# Altium schematic symbol library kmilo17pet-LT_PMIC_LT.SchLib: 2252 symbols (part 116 of 124)
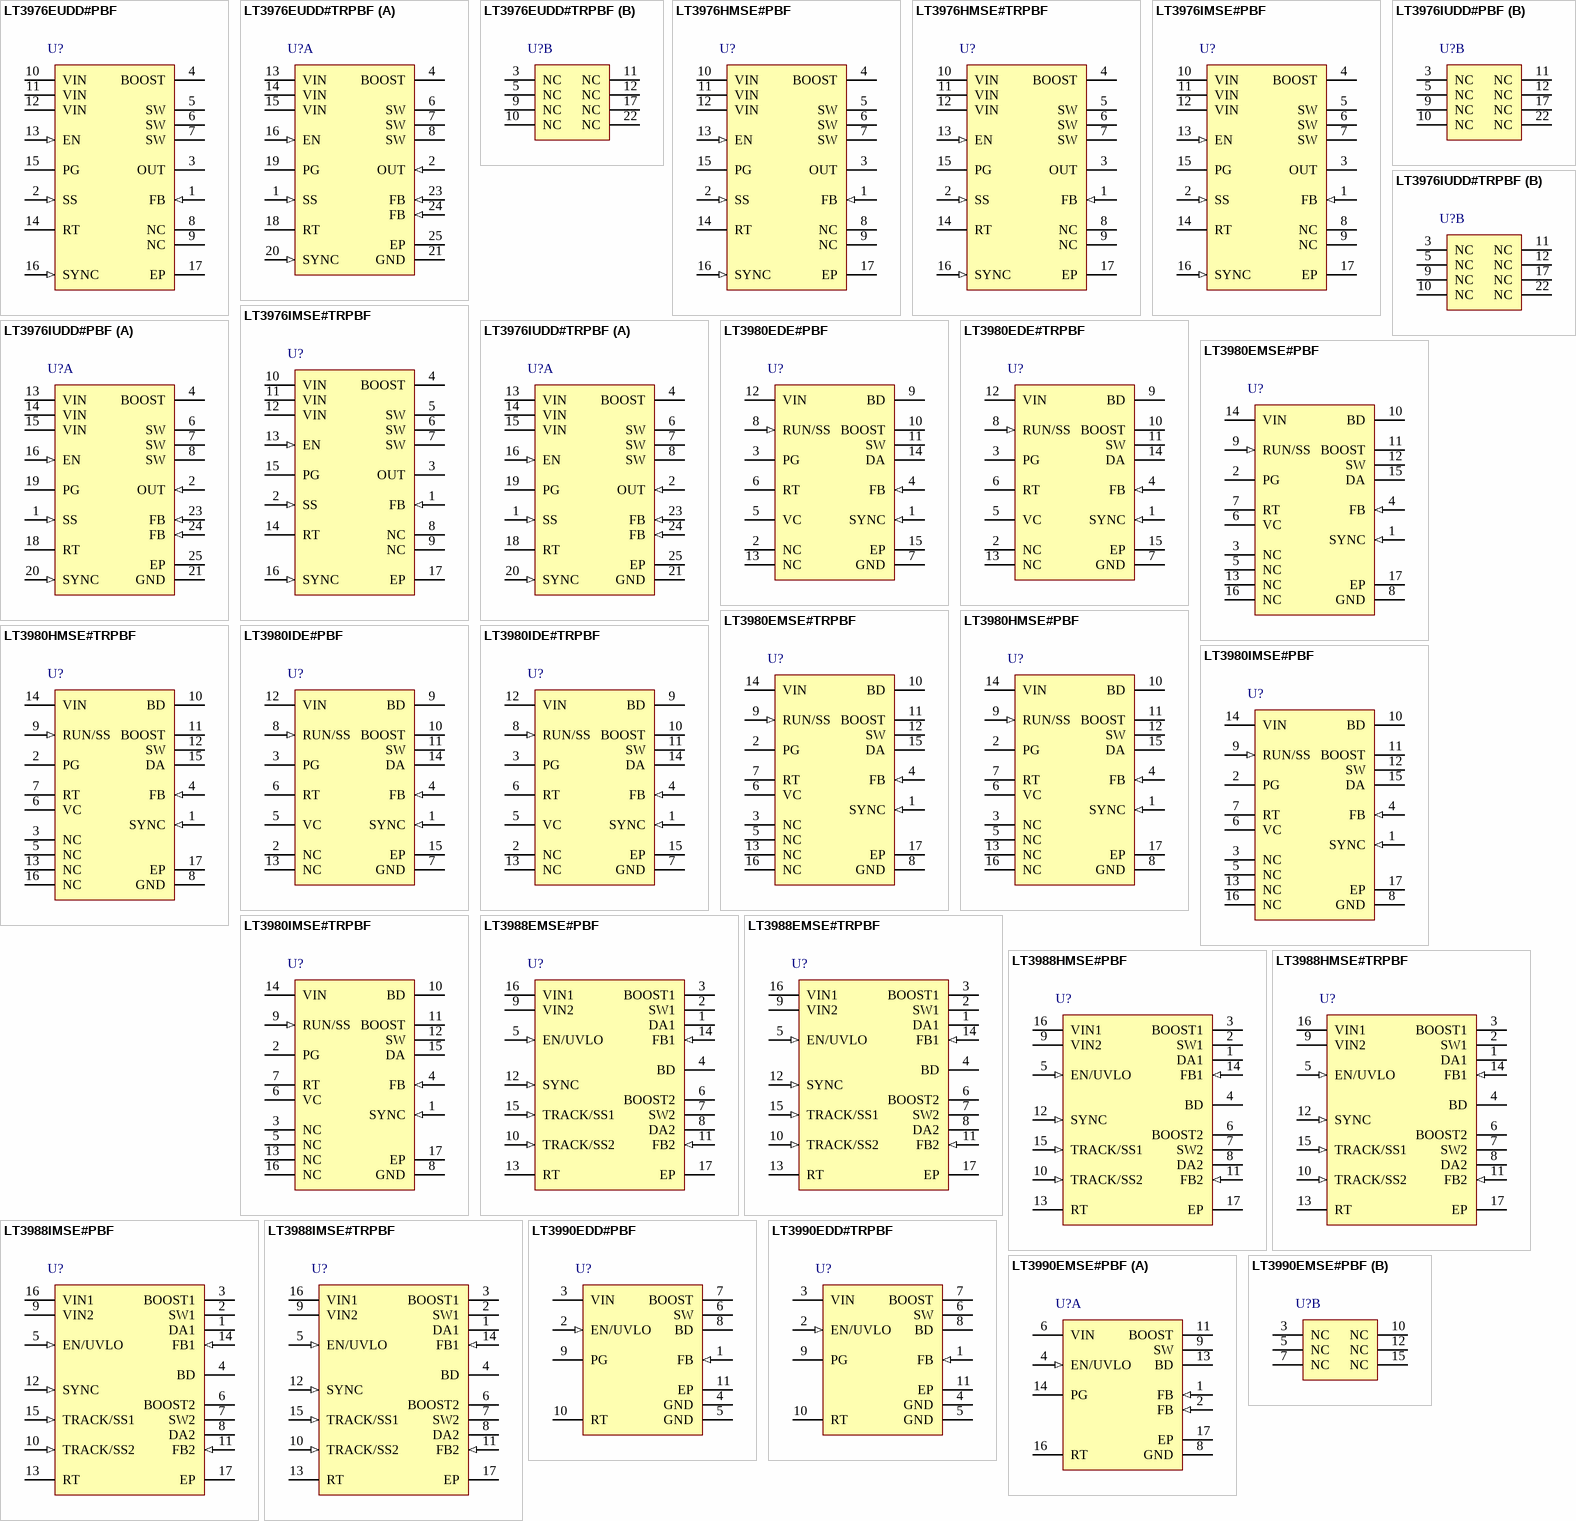
[diagram p186: symbols LT3976EUDD#PBF to LT3990EMSE#PBF]

## LT3980EDE#PBF
designator U?
2 A, 2.4 MHz Step-Down Switching Regulator with 85 uA Quiescent Current, 14-pin SON (DE-14), -40 to 125 degC, Pb-Free; Manufacturer: Linear Technology; PartNumber: LT3980EDE#PBF; Number of Outputs: 1; PackageReference: DE-14; PackageDescription: 14-Pin Plastic DFN, Body 4 x 3 mm, Pitch 0.5 mm; Supplier 1: Digi-Key; Supplier Part Number 1: LT3980EDE#PBF-ND; RoHS: TRUE
footprint LT-DE-14_V (SON, 14-Leads, Body 4x3mm, Pitch 0.5mm, Thermal Pad 3.3x1.7mm)
pins: 1 SYNC (in) "This is the external clock synchronization input. Ground this pin for low ripple Burst Mode operation at low output loads. Tie to a clock source for synchronization. Clock edges should have rise and fall times faster than (See Datasheet)", 2 NC "No Connect. These pins are not connected to internal circuitry.", 3 PG (oc) "The PG pin is the open collector output of an internal comparator. PG remains low until the FB pin is within 9% of the fi nal regulation voltage. PG output is valid when VIN is above 3.6V and RUN/SS is high", 4 FB (in) "The LT3980 regulates the FB pin to 0.790V. Connect the feedback resistor divider tap to this pin.", 5 VC "The VC pin is the output of the internal error amplifier. The voltage on this pin controls the peak switch current. Tie an RC network from this pin to ground to compensate the control loop.", 6 RT "Oscillator Resistor Input. Connecting a resistor to ground from this pin sets the switching frequency.", 7 GND (power) "Ground.", 8 RUN/SS (in) "The RUN/SS pin is used to put the LT3980 in shutdown mode. Tie to ground to shut down the LT3980. Tie to 2.5V or more for normal operation. If the shutdown feature is not used, tie this pin to the VIN pin. RUN/SS also (See Datasheet)", 9 BD (power) "This pin connects to the anode of the boost Schottky diode. BD also supplies current to the internal regulator.", 10 BOOST "This pin is used to provide a drive voltage, higher than the input voltage, to the internal bipolar NPN power switch", 11 SW (power) "The SW pin is the output of the internal power switch. Connect this pin to the inductor, catch diode and boost capacitor.", 12 VIN (power) "The VIN pin supplies current to the LT3980’s internal regulator and to the internal power switch. This pin must be locally bypassed", 13 NC "No Connect. These pins are not connected to internal circuitry.", 14 DA "This pin measures catch diode current and pauses the oscillator during overcurrent conditions", 15 EP (power) "Ground. The exposed pads must be soldered to the PCB."

## LT3980EDE#TRPBF
designator U?
2 A, 2.4 MHz Step-Down Switching Regulator with 85 uA Quiescent Current, 14-pin SON (DE-14), -40 to 125 degC, Pb-Free, Tape and Reel; Manufacturer: Linear Technology; PartNumber: LT3980EDE#TRPBF; Number of Outputs: 1; PackageReference: DE-14; PackageDescription: 14-Pin Plastic DFN, Body 4 x 3 mm, Pitch 0.5 mm; Supplier 1: Digi-Key; Supplier Part Number 1: LT3980EDE#TRPBF-ND; RoHS: TRUE
footprint LT-DE-14_V (SON, 14-Leads, Body 4x3mm, Pitch 0.5mm, Thermal Pad 3.3x1.7mm)
pins: 1 SYNC (in) "This is the external clock synchronization input. Ground this pin for low ripple Burst Mode operation at low output loads. Tie to a clock source for synchronization. Clock edges should have rise and fall times faster than (See Datasheet)", 2 NC "No Connect. These pins are not connected to internal circuitry.", 3 PG (oc) "The PG pin is the open collector output of an internal comparator. PG remains low until the FB pin is within 9% of the fi nal regulation voltage. PG output is valid when VIN is above 3.6V and RUN/SS is high", 4 FB (in) "The LT3980 regulates the FB pin to 0.790V. Connect the feedback resistor divider tap to this pin.", 5 VC "The VC pin is the output of the internal error amplifier. The voltage on this pin controls the peak switch current. Tie an RC network from this pin to ground to compensate the control loop.", 6 RT "Oscillator Resistor Input. Connecting a resistor to ground from this pin sets the switching frequency.", 7 GND (power) "Ground.", 8 RUN/SS (in) "The RUN/SS pin is used to put the LT3980 in shutdown mode. Tie to ground to shut down the LT3980. Tie to 2.5V or more for normal operation. If the shutdown feature is not used, tie this pin to the VIN pin. RUN/SS also (See Datasheet)", 9 BD (power) "This pin connects to the anode of the boost Schottky diode. BD also supplies current to the internal regulator.", 10 BOOST "This pin is used to provide a drive voltage, higher than the input voltage, to the internal bipolar NPN power switch", 11 SW (power) "The SW pin is the output of the internal power switch. Connect this pin to the inductor, catch diode and boost capacitor.", 12 VIN (power) "The VIN pin supplies current to the LT3980’s internal regulator and to the internal power switch. This pin must be locally bypassed", 13 NC "No Connect. These pins are not connected to internal circuitry.", 14 DA "This pin measures catch diode current and pauses the oscillator during overcurrent conditions", 15 EP (power) "Ground. The exposed pads must be soldered to the PCB."

## LT3980EMSE#PBF
designator U?
2 A, 2.4 MHz Step-Down Switching Regulator with 85 uA Quiescent Current, 16-pin SOP (MSE-16-EDP), -40 to 125 degC, Pb-Free; Manufacturer: Linear Technology; PartNumber: LT3980EMSE#PBF; Number of Outputs: 1; PackageReference: MSE-16; PackageDescription: 16-Pin Plastic MSOP, Exposed Die Pad, Body 4.039 x 3 mm, Pitch 0.5 mm; Supplier 1: Digi-Key; Supplier Part Number 1: LT3980EMSE#PBF-ND; RoHS: TRUE
footprint LT-MSE-16-EDP_N (SOP, 16-Leads, Body 4.1x3.1mm, Pitch 0.5mm, Thermal Pad 2.95x1.76mm, IPC Medium Density)
footprint LT-MSE-16-EDP_L (SOP, 16-Leads, Body 4.1x3.1mm, Pitch 0.5mm, Thermal Pad 2.95x1.76mm, IPC High Density)
footprint LT-MSE-16-EDP_M (SOP, 16-Leads, Body 4.1x3.1mm, Pitch 0.5mm, Thermal Pad 2.95x1.76mm, IPC Low Density)
pins: 1 SYNC (in) "This is the external clock synchronization input. Ground this pin for low ripple Burst Mode operation at low output loads. Tie to a clock source for synchronization. Clock edges should have rise and fall times faster than (See Datasheet)", 2 PG (oc) "The PG pin is the open collector output of an internal comparator. PG remains low until the FB pin is within 9% of the fi nal regulation voltage. PG output is valid when VIN is above 3.6V and RUN/SS is high.", 3 NC "No Connect. These pins are not connected to internal circuitry.", 4 FB (in) "The LT3980 regulates the FB pin to 0.790V. Connect the feedback resistor divider tap to this pin.", 5 NC "No Connect. These pins are not connected to internal circuitry.", 6 VC "The VC pin is the output of the internal error amplifier. The voltage on this pin controls the peak switch current. Tie an RC network from this pin to ground to compensate the control loop.", 7 RT "Oscillator Resistor Input. Connecting a resistor to ground from this pin sets the switching frequency.", 8 GND (power) "Ground. The exposed pads must be soldered to the PCB.", 9 RUN/SS (in) "The RUN/SS pin is used to put the LT3980 in shutdown mode. Tie to ground to shut down the LT3980. Tie to 2.5V or more for normal operation. If the shutdown feature is not used, tie this pin to the VIN pin. RUN/SS also (See Datasheet)", 10 BD (power) "This pin connects to the anode of the boost Schottky diode. BD also supplies current to the internal regulator.", 11 BOOST "This pin is used to provide a drive voltage, higher than the input voltage, to the internal bipolar NPN power switch.", 12 SW (power) "The SW pin is the output of the internal power switch. Connect this pin to the inductor, catch diode and boost capacitor.", 13 NC "No Connect. These pins are not connected to internal circuitry.", 14 VIN (power) "The VIN pin supplies current to the LT3980’s internal regulator and to the internal power switch. This pin must be locally bypassed.", 15 DA "This pin measures catch diode current and pauses the oscillator during overcurrent conditions.", 16 NC "No Connect. These pins are not connected to internal circuitry.", 17 EP (power) "Ground. The exposed pads must be soldered to the PCB."

## LT3980EMSE#TRPBF
designator U?
2 A, 2.4 MHz Step-Down Switching Regulator with 85 uA Quiescent Current, 16-pin SOP (MSE-16-EDP), -40 to 125 degC, Pb-Free, Tape and Reel; Manufacturer: Linear Technology; PartNumber: LT3980EMSE#TRPBF; Number of Outputs: 1; PackageReference: MSE-16; PackageDescription: 16-Pin Plastic MSOP, Exposed Die Pad, Body 4.039 x 3 mm, Pitch 0.5 mm; Supplier 1: Digi-Key; Supplier Part Number 1: LT3980EMSE#TRPBF-ND; RoHS: TRUE
footprint LT-MSE-16-EDP_N (SOP, 16-Leads, Body 4.1x3.1mm, Pitch 0.5mm, Thermal Pad 2.95x1.76mm, IPC Medium Density)
footprint LT-MSE-16-EDP_L (SOP, 16-Leads, Body 4.1x3.1mm, Pitch 0.5mm, Thermal Pad 2.95x1.76mm, IPC High Density)
footprint LT-MSE-16-EDP_M (SOP, 16-Leads, Body 4.1x3.1mm, Pitch 0.5mm, Thermal Pad 2.95x1.76mm, IPC Low Density)
pins: 1 SYNC (in) "This is the external clock synchronization input. Ground this pin for low ripple Burst Mode operation at low output loads. Tie to a clock source for synchronization. Clock edges should have rise and fall times faster than (See Datasheet)", 2 PG (oc) "The PG pin is the open collector output of an internal comparator. PG remains low until the FB pin is within 9% of the fi nal regulation voltage. PG output is valid when VIN is above 3.6V and RUN/SS is high.", 3 NC "No Connect. These pins are not connected to internal circuitry.", 4 FB (in) "The LT3980 regulates the FB pin to 0.790V. Connect the feedback resistor divider tap to this pin.", 5 NC "No Connect. These pins are not connected to internal circuitry.", 6 VC "The VC pin is the output of the internal error amplifier. The voltage on this pin controls the peak switch current. Tie an RC network from this pin to ground to compensate the control loop.", 7 RT "Oscillator Resistor Input. Connecting a resistor to ground from this pin sets the switching frequency.", 8 GND (power) "Ground. The exposed pads must be soldered to the PCB.", 9 RUN/SS (in) "The RUN/SS pin is used to put the LT3980 in shutdown mode. Tie to ground to shut down the LT3980. Tie to 2.5V or more for normal operation. If the shutdown feature is not used, tie this pin to the VIN pin. RUN/SS also (See Datasheet)", 10 BD (power) "This pin connects to the anode of the boost Schottky diode. BD also supplies current to the internal regulator.", 11 BOOST "This pin is used to provide a drive voltage, higher than the input voltage, to the internal bipolar NPN power switch.", 12 SW (power) "The SW pin is the output of the internal power switch. Connect this pin to the inductor, catch diode and boost capacitor.", 13 NC "No Connect. These pins are not connected to internal circuitry.", 14 VIN (power) "The VIN pin supplies current to the LT3980’s internal regulator and to the internal power switch. This pin must be locally bypassed.", 15 DA "This pin measures catch diode current and pauses the oscillator during overcurrent conditions.", 16 NC "No Connect. These pins are not connected to internal circuitry.", 17 EP (power) "Ground. The exposed pads must be soldered to the PCB."

## LT3980HMSE#PBF
designator U?
2 A, 2.4 MHz Step-Down Switching Regulator with 85 uA Quiescent Current, 16-pin SOP (MSE-16-EDP), -40 to 150 degC, Pb-Free; Manufacturer: Linear Technology; PartNumber: LT3980HMSE#PBF; Number of Outputs: 1; PackageReference: MSE-16; PackageDescription: 16-Pin Plastic MSOP, Exposed Die Pad, Body 4.039 x 3 mm, Pitch 0.5 mm; Supplier 1: Digi-Key; Supplier Part Number 1: LT3980HMSE#PBF-ND; RoHS: TRUE
footprint LT-MSE-16-EDP_N (SOP, 16-Leads, Body 4.1x3.1mm, Pitch 0.5mm, Thermal Pad 2.95x1.76mm, IPC Medium Density)
footprint LT-MSE-16-EDP_L (SOP, 16-Leads, Body 4.1x3.1mm, Pitch 0.5mm, Thermal Pad 2.95x1.76mm, IPC High Density)
footprint LT-MSE-16-EDP_M (SOP, 16-Leads, Body 4.1x3.1mm, Pitch 0.5mm, Thermal Pad 2.95x1.76mm, IPC Low Density)
pins: 1 SYNC (in) "This is the external clock synchronization input. Ground this pin for low ripple Burst Mode operation at low output loads. Tie to a clock source for synchronization. Clock edges should have rise and fall times faster than (See Datasheet)", 2 PG (oc) "The PG pin is the open collector output of an internal comparator. PG remains low until the FB pin is within 9% of the fi nal regulation voltage. PG output is valid when VIN is above 3.6V and RUN/SS is high.", 3 NC "No Connect. These pins are not connected to internal circuitry.", 4 FB (in) "The LT3980 regulates the FB pin to 0.790V. Connect the feedback resistor divider tap to this pin.", 5 NC "No Connect. These pins are not connected to internal circuitry.", 6 VC "The VC pin is the output of the internal error amplifier. The voltage on this pin controls the peak switch current. Tie an RC network from this pin to ground to compensate the control loop.", 7 RT "Oscillator Resistor Input. Connecting a resistor to ground from this pin sets the switching frequency.", 8 GND (power) "Ground. The exposed pads must be soldered to the PCB.", 9 RUN/SS (in) "The RUN/SS pin is used to put the LT3980 in shutdown mode. Tie to ground to shut down the LT3980. Tie to 2.5V or more for normal operation. If the shutdown feature is not used, tie this pin to the VIN pin. RUN/SS also (See Datasheet)", 10 BD (power) "This pin connects to the anode of the boost Schottky diode. BD also supplies current to the internal regulator.", 11 BOOST "This pin is used to provide a drive voltage, higher than the input voltage, to the internal bipolar NPN power switch.", 12 SW (power) "The SW pin is the output of the internal power switch. Connect this pin to the inductor, catch diode and boost capacitor.", 13 NC "No Connect. These pins are not connected to internal circuitry.", 14 VIN (power) "The VIN pin supplies current to the LT3980’s internal regulator and to the internal power switch. This pin must be locally bypassed.", 15 DA "This pin measures catch diode current and pauses the oscillator during overcurrent conditions.", 16 NC "No Connect. These pins are not connected to internal circuitry.", 17 EP (power) "Ground. The exposed pads must be soldered to the PCB."

## LT3980HMSE#TRPBF
designator U?
2 A, 2.4 MHz Step-Down Switching Regulator with 85 uA Quiescent Current, 16-pin SOP (MSE-16-EDP), -40 to 150 degC, Pb-Free, Tape and Reel; Manufacturer: Linear Technology; PartNumber: LT3980HMSE#TRPBF; Number of Outputs: 1; PackageReference: MSE-16; PackageDescription: 16-Pin Plastic MSOP, Exposed Die Pad, Body 4.039 x 3 mm, Pitch 0.5 mm; Supplier 1: Digi-Key; Supplier Part Number 1: LT3980HMSE#TRPBF-ND; RoHS: TRUE
footprint LT-MSE-16-EDP_N (SOP, 16-Leads, Body 4.1x3.1mm, Pitch 0.5mm, Thermal Pad 2.95x1.76mm, IPC Medium Density)
footprint LT-MSE-16-EDP_L (SOP, 16-Leads, Body 4.1x3.1mm, Pitch 0.5mm, Thermal Pad 2.95x1.76mm, IPC High Density)
footprint LT-MSE-16-EDP_M (SOP, 16-Leads, Body 4.1x3.1mm, Pitch 0.5mm, Thermal Pad 2.95x1.76mm, IPC Low Density)
pins: 1 SYNC (in) "This is the external clock synchronization input. Ground this pin for low ripple Burst Mode operation at low output loads. Tie to a clock source for synchronization. Clock edges should have rise and fall times faster than (See Datasheet)", 2 PG (oc) "The PG pin is the open collector output of an internal comparator. PG remains low until the FB pin is within 9% of the fi nal regulation voltage. PG output is valid when VIN is above 3.6V and RUN/SS is high.", 3 NC "No Connect. These pins are not connected to internal circuitry.", 4 FB (in) "The LT3980 regulates the FB pin to 0.790V. Connect the feedback resistor divider tap to this pin.", 5 NC "No Connect. These pins are not connected to internal circuitry.", 6 VC "The VC pin is the output of the internal error amplifier. The voltage on this pin controls the peak switch current. Tie an RC network from this pin to ground to compensate the control loop.", 7 RT "Oscillator Resistor Input. Connecting a resistor to ground from this pin sets the switching frequency.", 8 GND (power) "Ground. The exposed pads must be soldered to the PCB.", 9 RUN/SS (in) "The RUN/SS pin is used to put the LT3980 in shutdown mode. Tie to ground to shut down the LT3980. Tie to 2.5V or more for normal operation. If the shutdown feature is not used, tie this pin to the VIN pin. RUN/SS also (See Datasheet)", 10 BD (power) "This pin connects to the anode of the boost Schottky diode. BD also supplies current to the internal regulator.", 11 BOOST "This pin is used to provide a drive voltage, higher than the input voltage, to the internal bipolar NPN power switch.", 12 SW (power) "The SW pin is the output of the internal power switch. Connect this pin to the inductor, catch diode and boost capacitor.", 13 NC "No Connect. These pins are not connected to internal circuitry.", 14 VIN (power) "The VIN pin supplies current to the LT3980’s internal regulator and to the internal power switch. This pin must be locally bypassed.", 15 DA "This pin measures catch diode current and pauses the oscillator during overcurrent conditions.", 16 NC "No Connect. These pins are not connected to internal circuitry.", 17 EP (power) "Ground. The exposed pads must be soldered to the PCB."

## LT3980IDE#PBF
designator U?
2 A, 2.4 MHz Step-Down Switching Regulator with 85 uA Quiescent Current, 14-pin SON (DE-14), -40 to 125 degC, Pb-Free; Manufacturer: Linear Technology; PartNumber: LT3980IDE#PBF; Number of Outputs: 1; PackageReference: DE-14; PackageDescription: 14-Pin Plastic DFN, Body 4 x 3 mm, Pitch 0.5 mm; Supplier 1: Digi-Key; Supplier Part Number 1: LT3980IDE#PBF-ND; RoHS: TRUE
footprint LT-DE-14_V (SON, 14-Leads, Body 4x3mm, Pitch 0.5mm, Thermal Pad 3.3x1.7mm)
pins: 1 SYNC (in) "This is the external clock synchronization input. Ground this pin for low ripple Burst Mode operation at low output loads. Tie to a clock source for synchronization. Clock edges should have rise and fall times faster than (See Datasheet)", 2 NC "No Connect. These pins are not connected to internal circuitry.", 3 PG (oc) "The PG pin is the open collector output of an internal comparator. PG remains low until the FB pin is within 9% of the fi nal regulation voltage. PG output is valid when VIN is above 3.6V and RUN/SS is high", 4 FB (in) "The LT3980 regulates the FB pin to 0.790V. Connect the feedback resistor divider tap to this pin.", 5 VC "The VC pin is the output of the internal error amplifier. The voltage on this pin controls the peak switch current. Tie an RC network from this pin to ground to compensate the control loop.", 6 RT "Oscillator Resistor Input. Connecting a resistor to ground from this pin sets the switching frequency.", 7 GND (power) "Ground.", 8 RUN/SS (in) "The RUN/SS pin is used to put the LT3980 in shutdown mode. Tie to ground to shut down the LT3980. Tie to 2.5V or more for normal operation. If the shutdown feature is not used, tie this pin to the VIN pin. RUN/SS also (See Datasheet)", 9 BD (power) "This pin connects to the anode of the boost Schottky diode. BD also supplies current to the internal regulator.", 10 BOOST "This pin is used to provide a drive voltage, higher than the input voltage, to the internal bipolar NPN power switch", 11 SW (power) "The SW pin is the output of the internal power switch. Connect this pin to the inductor, catch diode and boost capacitor.", 12 VIN (power) "The VIN pin supplies current to the LT3980’s internal regulator and to the internal power switch. This pin must be locally bypassed", 13 NC "No Connect. These pins are not connected to internal circuitry.", 14 DA "This pin measures catch diode current and pauses the oscillator during overcurrent conditions", 15 EP (power) "Ground. The exposed pads must be soldered to the PCB."

## LT3980IDE#TRPBF
designator U?
2 A, 2.4 MHz Step-Down Switching Regulator with 85 uA Quiescent Current, 14-pin SON (DE-14), -40 to 125 degC, Pb-Free, Tape and Reel; Manufacturer: Linear Technology; PartNumber: LT3980IDE#TRPBF; Number of Outputs: 1; PackageReference: DE-14; PackageDescription: 14-Pin Plastic DFN, Body 4 x 3 mm, Pitch 0.5 mm; Supplier 1: Digi-Key; Supplier Part Number 1: LT3980IDE#TRPBF-ND; RoHS: TRUE
footprint LT-DE-14_V (SON, 14-Leads, Body 4x3mm, Pitch 0.5mm, Thermal Pad 3.3x1.7mm)
pins: 1 SYNC (in) "This is the external clock synchronization input. Ground this pin for low ripple Burst Mode operation at low output loads. Tie to a clock source for synchronization. Clock edges should have rise and fall times faster than (See Datasheet)", 2 NC "No Connect. These pins are not connected to internal circuitry.", 3 PG (oc) "The PG pin is the open collector output of an internal comparator. PG remains low until the FB pin is within 9% of the fi nal regulation voltage. PG output is valid when VIN is above 3.6V and RUN/SS is high", 4 FB (in) "The LT3980 regulates the FB pin to 0.790V. Connect the feedback resistor divider tap to this pin.", 5 VC "The VC pin is the output of the internal error amplifier. The voltage on this pin controls the peak switch current. Tie an RC network from this pin to ground to compensate the control loop.", 6 RT "Oscillator Resistor Input. Connecting a resistor to ground from this pin sets the switching frequency.", 7 GND (power) "Ground.", 8 RUN/SS (in) "The RUN/SS pin is used to put the LT3980 in shutdown mode. Tie to ground to shut down the LT3980. Tie to 2.5V or more for normal operation. If the shutdown feature is not used, tie this pin to the VIN pin. RUN/SS also (See Datasheet)", 9 BD (power) "This pin connects to the anode of the boost Schottky diode. BD also supplies current to the internal regulator.", 10 BOOST "This pin is used to provide a drive voltage, higher than the input voltage, to the internal bipolar NPN power switch", 11 SW (power) "The SW pin is the output of the internal power switch. Connect this pin to the inductor, catch diode and boost capacitor.", 12 VIN (power) "The VIN pin supplies current to the LT3980’s internal regulator and to the internal power switch. This pin must be locally bypassed", 13 NC "No Connect. These pins are not connected to internal circuitry.", 14 DA "This pin measures catch diode current and pauses the oscillator during overcurrent conditions", 15 EP (power) "Ground. The exposed pads must be soldered to the PCB."

## LT3980IMSE#PBF
designator U?
2 A, 2.4 MHz Step-Down Switching Regulator with 85 uA Quiescent Current, 16-pin SOP (MSE-16-EDP), -40 to 125 degC, Pb-Free; Manufacturer: Linear Technology; PartNumber: LT3980IMSE#PBF; Number of Outputs: 1; PackageReference: MSE-16; PackageDescription: 16-Pin Plastic MSOP, Exposed Die Pad, Body 4.039 x 3 mm, Pitch 0.5 mm; Supplier 1: Digi-Key; Supplier Part Number 1: LT3980IMSE#PBF-ND; RoHS: TRUE
footprint LT-MSE-16-EDP_N (SOP, 16-Leads, Body 4.1x3.1mm, Pitch 0.5mm, Thermal Pad 2.95x1.76mm, IPC Medium Density)
footprint LT-MSE-16-EDP_L (SOP, 16-Leads, Body 4.1x3.1mm, Pitch 0.5mm, Thermal Pad 2.95x1.76mm, IPC High Density)
footprint LT-MSE-16-EDP_M (SOP, 16-Leads, Body 4.1x3.1mm, Pitch 0.5mm, Thermal Pad 2.95x1.76mm, IPC Low Density)
pins: 1 SYNC (in) "This is the external clock synchronization input. Ground this pin for low ripple Burst Mode operation at low output loads. Tie to a clock source for synchronization. Clock edges should have rise and fall times faster than (See Datasheet)", 2 PG (oc) "The PG pin is the open collector output of an internal comparator. PG remains low until the FB pin is within 9% of the fi nal regulation voltage. PG output is valid when VIN is above 3.6V and RUN/SS is high.", 3 NC "No Connect. These pins are not connected to internal circuitry.", 4 FB (in) "The LT3980 regulates the FB pin to 0.790V. Connect the feedback resistor divider tap to this pin.", 5 NC "No Connect. These pins are not connected to internal circuitry.", 6 VC "The VC pin is the output of the internal error amplifier. The voltage on this pin controls the peak switch current. Tie an RC network from this pin to ground to compensate the control loop.", 7 RT "Oscillator Resistor Input. Connecting a resistor to ground from this pin sets the switching frequency.", 8 GND (power) "Ground. The exposed pads must be soldered to the PCB.", 9 RUN/SS (in) "The RUN/SS pin is used to put the LT3980 in shutdown mode. Tie to ground to shut down the LT3980. Tie to 2.5V or more for normal operation. If the shutdown feature is not used, tie this pin to the VIN pin. RUN/SS also (See Datasheet)", 10 BD (power) "This pin connects to the anode of the boost Schottky diode. BD also supplies current to the internal regulator.", 11 BOOST "This pin is used to provide a drive voltage, higher than the input voltage, to the internal bipolar NPN power switch.", 12 SW (power) "The SW pin is the output of the internal power switch. Connect this pin to the inductor, catch diode and boost capacitor.", 13 NC "No Connect. These pins are not connected to internal circuitry.", 14 VIN (power) "The VIN pin supplies current to the LT3980’s internal regulator and to the internal power switch. This pin must be locally bypassed.", 15 DA "This pin measures catch diode current and pauses the oscillator during overcurrent conditions.", 16 NC "No Connect. These pins are not connected to internal circuitry.", 17 EP (power) "Ground. The exposed pads must be soldered to the PCB."

## LT3980IMSE#TRPBF
designator U?
2 A, 2.4 MHz Step-Down Switching Regulator with 85 uA Quiescent Current, 16-pin SOP (MSE-16-EDP), -40 to 125 degC, Pb-Free, Tape and Reel; Manufacturer: Linear Technology; PartNumber: LT3980IMSE#TRPBF; Number of Outputs: 1; PackageReference: MSE-16; PackageDescription: 16-Pin Plastic MSOP, Exposed Die Pad, Body 4.039 x 3 mm, Pitch 0.5 mm; Supplier 1: Digi-Key; Supplier Part Number 1: LT3980IMSE#TRPBF-ND; RoHS: TRUE
footprint LT-MSE-16-EDP_N (SOP, 16-Leads, Body 4.1x3.1mm, Pitch 0.5mm, Thermal Pad 2.95x1.76mm, IPC Medium Density)
footprint LT-MSE-16-EDP_L (SOP, 16-Leads, Body 4.1x3.1mm, Pitch 0.5mm, Thermal Pad 2.95x1.76mm, IPC High Density)
footprint LT-MSE-16-EDP_M (SOP, 16-Leads, Body 4.1x3.1mm, Pitch 0.5mm, Thermal Pad 2.95x1.76mm, IPC Low Density)
pins: 1 SYNC (in) "This is the external clock synchronization input. Ground this pin for low ripple Burst Mode operation at low output loads. Tie to a clock source for synchronization. Clock edges should have rise and fall times faster than (See Datasheet)", 2 PG (oc) "The PG pin is the open collector output of an internal comparator. PG remains low until the FB pin is within 9% of the fi nal regulation voltage. PG output is valid when VIN is above 3.6V and RUN/SS is high.", 3 NC "No Connect. These pins are not connected to internal circuitry.", 4 FB (in) "The LT3980 regulates the FB pin to 0.790V. Connect the feedback resistor divider tap to this pin.", 5 NC "No Connect. These pins are not connected to internal circuitry.", 6 VC "The VC pin is the output of the internal error amplifier. The voltage on this pin controls the peak switch current. Tie an RC network from this pin to ground to compensate the control loop.", 7 RT "Oscillator Resistor Input. Connecting a resistor to ground from this pin sets the switching frequency.", 8 GND (power) "Ground. The exposed pads must be soldered to the PCB.", 9 RUN/SS (in) "The RUN/SS pin is used to put the LT3980 in shutdown mode. Tie to ground to shut down the LT3980. Tie to 2.5V or more for normal operation. If the shutdown feature is not used, tie this pin to the VIN pin. RUN/SS also (See Datasheet)", 10 BD (power) "This pin connects to the anode of the boost Schottky diode. BD also supplies current to the internal regulator.", 11 BOOST "This pin is used to provide a drive voltage, higher than the input voltage, to the internal bipolar NPN power switch.", 12 SW (power) "The SW pin is the output of the internal power switch. Connect this pin to the inductor, catch diode and boost capacitor.", 13 NC "No Connect. These pins are not connected to internal circuitry.", 14 VIN (power) "The VIN pin supplies current to the LT3980’s internal regulator and to the internal power switch. This pin must be locally bypassed.", 15 DA "This pin measures catch diode current and pauses the oscillator during overcurrent conditions.", 16 NC "No Connect. These pins are not connected to internal circuitry.", 17 EP (power) "Ground. The exposed pads must be soldered to the PCB."

## LT3988EMSE#PBF
designator U?
Dual 60 V Monolithic 1 A Step-Down Switching Regulator, 16-pin SOP (MSE-16-EDP), -40 to 125 degC, Pb-Free; Manufacturer: Linear Technology; PartNumber: LT3988EMSE#PBF; Number of Outputs: 2; PackageReference: MSE-16; PackageDescription: 16-Pin Plastic MSOP, Exposed Die Pad, Body 4.039 x 3 mm, Pitch 0.5 mm; Supplier 1: Digi-Key; Supplier Part Number 1: LT3988EMSE#PBF-ND; RoHS: TRUE
footprint LT-MSE-16-EDP_N (SOP, 16-Leads, Body 4.1x3.1mm, Pitch 0.5mm, Thermal Pad 2.95x1.76mm, IPC Medium Density)
footprint LT-MSE-16-EDP_L (SOP, 16-Leads, Body 4.1x3.1mm, Pitch 0.5mm, Thermal Pad 2.95x1.76mm, IPC High Density)
footprint LT-MSE-16-EDP_M (SOP, 16-Leads, Body 4.1x3.1mm, Pitch 0.5mm, Thermal Pad 2.95x1.76mm, IPC Low Density)
pins: 1 DA1 "Tie the DA pin to the anode of the external Schottky catch diode. If the DA pin current exceeds 1.32A, which could occur in an overload or short-circuit condition, switching is disabled until the DA pin current falls below 1.(See Datasheet)", 2 SW1 (power) "The SW pins are the outputs of the internal power switches. Connect these pins to the inductors, catch diodes and boost capacitors.", 3 BOOST1 "The BOOST pins are used to provide drive voltages, higher than the input voltage, to the internal NPN power switches.", 4 BD (power) "Internal boost diodes are connected between the BD pin and the BOOST pins. Connect BD to a 3V or higher supply, such as VOUT.", 5 EN/UVLO (in) "This pin is used to shut down the LT3988. It can be driven from a logic level, tied directly to the input, or used as an undervoltage lockout by connecting a resistor divider from VIN1.", 6 BOOST2 "The BOOST pins are used to provide drive voltages, higher than the input voltage, to the internal NPN power switches.", 7 SW2 (power) "The SW pins are the outputs of the internal power switches. Connect these pins to the inductors, catch diodes and boost capacitors.", 8 DA2 "Tie the DA pin to the anode of the external Schottky catch diode. If the DA pin current exceeds 1.32A, which could occur in an overload or short-circuit condition, switching is disabled until the DA pin current falls below 1.(See Datasheet)", 9 VIN2 (power) "The VIN2 pin supplies current to the internal power switch connected to SW2 and must be locally bypassed. Connect this pin directly to VIN1 unless power for channel 2 is coming from a different source. VIN2 must be greater (See Datasheet)", 10 TRACK/SS2 (in) "The TRACK/SS pins are used to soft-start the two channels, to allow one channel to track the other output, or to allow both channels to track another output. For tracking, tie a resistor divider to this pin from the tracked (See Datasheet)", 11 FB2 (in) "The LT3988 regulates each feedback pin to 0.750V. Connect the feedback resistor divider taps to these pins.", 12 SYNC (in) "To synchronize the part to an external frequency, drive the SYNC pin with a logic-level signal with positive and negative pulse widths of at least 100ns. If the SYNC function is not used, connect the SYNC pin to ground. If (See Datasheet)", 13 RT "The RT pin is used to set the internal oscillator frequency. Tie a resistor from RT to GND for the desired switching frequency.", 14 FB1 (in) "The LT3988 regulates each feedback pin to 0.750V. Connect the feedback resistor divider taps to these pins.", 15 TRACK/SS1 (in) "The TRACK/SS pins are used to soft-start the two channels, to allow one channel to track the other output, or to allow both channels to track another output. For tracking, tie a resistor divider to this pin from the tracked (See Datasheet)", 16 VIN1 (power) "The VIN1 pin supplies current to the LT3988 internal circuitry and to the internal power switch connected to SW1 and must be locally bypassed. VIN1 must be greater than 3.9V (typ) for channel 1 or channel 2 to operate.", 17 EP (power) "The exposed pad metal of the package provides both electrical contact to ground and good thermal contact to the printed circuit board. The exposed pad must be soldered to the circuit board for proper operation."

## LT3988EMSE#TRPBF
designator U?
Dual 60 V Monolithic 1 A Step-Down Switching Regulator, 16-pin SOP (MSE-16-EDP), -40 to 125 degC, Pb-Free, Tape and Reel; Manufacturer: Linear Technology; PartNumber: LT3988EMSE#TRPBF; Number of Outputs: 2; PackageReference: MSE-16; PackageDescription: 16-Pin Plastic MSOP, Exposed Die Pad, Body 4.039 x 3 mm, Pitch 0.5 mm; Supplier 1: Digi-Key; Supplier Part Number 1: LT3988EMSE#TRPBF-ND; RoHS: TRUE
footprint LT-MSE-16-EDP_N (SOP, 16-Leads, Body 4.1x3.1mm, Pitch 0.5mm, Thermal Pad 2.95x1.76mm, IPC Medium Density)
footprint LT-MSE-16-EDP_L (SOP, 16-Leads, Body 4.1x3.1mm, Pitch 0.5mm, Thermal Pad 2.95x1.76mm, IPC High Density)
footprint LT-MSE-16-EDP_M (SOP, 16-Leads, Body 4.1x3.1mm, Pitch 0.5mm, Thermal Pad 2.95x1.76mm, IPC Low Density)
pins: 1 DA1 "Tie the DA pin to the anode of the external Schottky catch diode. If the DA pin current exceeds 1.32A, which could occur in an overload or short-circuit condition, switching is disabled until the DA pin current falls below 1.(See Datasheet)", 2 SW1 (power) "The SW pins are the outputs of the internal power switches. Connect these pins to the inductors, catch diodes and boost capacitors.", 3 BOOST1 "The BOOST pins are used to provide drive voltages, higher than the input voltage, to the internal NPN power switches.", 4 BD (power) "Internal boost diodes are connected between the BD pin and the BOOST pins. Connect BD to a 3V or higher supply, such as VOUT.", 5 EN/UVLO (in) "This pin is used to shut down the LT3988. It can be driven from a logic level, tied directly to the input, or used as an undervoltage lockout by connecting a resistor divider from VIN1.", 6 BOOST2 "The BOOST pins are used to provide drive voltages, higher than the input voltage, to the internal NPN power switches.", 7 SW2 (power) "The SW pins are the outputs of the internal power switches. Connect these pins to the inductors, catch diodes and boost capacitors.", 8 DA2 "Tie the DA pin to the anode of the external Schottky catch diode. If the DA pin current exceeds 1.32A, which could occur in an overload or short-circuit condition, switching is disabled until the DA pin current falls below 1.(See Datasheet)", 9 VIN2 (power) "The VIN2 pin supplies current to the internal power switch connected to SW2 and must be locally bypassed. Connect this pin directly to VIN1 unless power for channel 2 is coming from a different source. VIN2 must be greater (See Datasheet)", 10 TRACK/SS2 (in) "The TRACK/SS pins are used to soft-start the two channels, to allow one channel to track the other output, or to allow both channels to track another output. For tracking, tie a resistor divider to this pin from the tracked (See Datasheet)", 11 FB2 (in) "The LT3988 regulates each feedback pin to 0.750V. Connect the feedback resistor divider taps to these pins.", 12 SYNC (in) "To synchronize the part to an external frequency, drive the SYNC pin with a logic-level signal with positive and negative pulse widths of at least 100ns. If the SYNC function is not used, connect the SYNC pin to ground. If (See Datasheet)", 13 RT "The RT pin is used to set the internal oscillator frequency. Tie a resistor from RT to GND for the desired switching frequency.", 14 FB1 (in) "The LT3988 regulates each feedback pin to 0.750V. Connect the feedback resistor divider taps to these pins.", 15 TRACK/SS1 (in) "The TRACK/SS pins are used to soft-start the two channels, to allow one channel to track the other output, or to allow both channels to track another output. For tracking, tie a resistor divider to this pin from the tracked (See Datasheet)", 16 VIN1 (power) "The VIN1 pin supplies current to the LT3988 internal circuitry and to the internal power switch connected to SW1 and must be locally bypassed. VIN1 must be greater than 3.9V (typ) for channel 1 or channel 2 to operate.", 17 EP (power) "The exposed pad metal of the package provides both electrical contact to ground and good thermal contact to the printed circuit board. The exposed pad must be soldered to the circuit board for proper operation."

## LT3988HMSE#PBF
designator U?
Dual 60 V Monolithic 1 A Step-Down Switching Regulator, 16-pin SOP (MSE-16-EDP), -40 to 150 degC, Pb-Free; Manufacturer: Linear Technology; PartNumber: LT3988HMSE#PBF; Number of Outputs: 2; PackageReference: MSE-16; PackageDescription: 16-Pin Plastic MSOP, Exposed Die Pad, Body 4.039 x 3 mm, Pitch 0.5 mm; Supplier 1: Digi-Key; Supplier Part Number 1: LT3988HMSE#PBF-ND; RoHS: TRUE
footprint LT-MSE-16-EDP_N (SOP, 16-Leads, Body 4.1x3.1mm, Pitch 0.5mm, Thermal Pad 2.95x1.76mm, IPC Medium Density)
footprint LT-MSE-16-EDP_L (SOP, 16-Leads, Body 4.1x3.1mm, Pitch 0.5mm, Thermal Pad 2.95x1.76mm, IPC High Density)
footprint LT-MSE-16-EDP_M (SOP, 16-Leads, Body 4.1x3.1mm, Pitch 0.5mm, Thermal Pad 2.95x1.76mm, IPC Low Density)
pins: 1 DA1 "Tie the DA pin to the anode of the external Schottky catch diode. If the DA pin current exceeds 1.32A, which could occur in an overload or short-circuit condition, switching is disabled until the DA pin current falls below 1.(See Datasheet)", 2 SW1 (power) "The SW pins are the outputs of the internal power switches. Connect these pins to the inductors, catch diodes and boost capacitors.", 3 BOOST1 "The BOOST pins are used to provide drive voltages, higher than the input voltage, to the internal NPN power switches.", 4 BD (power) "Internal boost diodes are connected between the BD pin and the BOOST pins. Connect BD to a 3V or higher supply, such as VOUT.", 5 EN/UVLO (in) "This pin is used to shut down the LT3988. It can be driven from a logic level, tied directly to the input, or used as an undervoltage lockout by connecting a resistor divider from VIN1.", 6 BOOST2 "The BOOST pins are used to provide drive voltages, higher than the input voltage, to the internal NPN power switches.", 7 SW2 (power) "The SW pins are the outputs of the internal power switches. Connect these pins to the inductors, catch diodes and boost capacitors.", 8 DA2 "Tie the DA pin to the anode of the external Schottky catch diode. If the DA pin current exceeds 1.32A, which could occur in an overload or short-circuit condition, switching is disabled until the DA pin current falls below 1.(See Datasheet)", 9 VIN2 (power) "The VIN2 pin supplies current to the internal power switch connected to SW2 and must be locally bypassed. Connect this pin directly to VIN1 unless power for channel 2 is coming from a different source. VIN2 must be greater (See Datasheet)", 10 TRACK/SS2 (in) "The TRACK/SS pins are used to soft-start the two channels, to allow one channel to track the other output, or to allow both channels to track another output. For tracking, tie a resistor divider to this pin from the tracked (See Datasheet)", 11 FB2 (in) "The LT3988 regulates each feedback pin to 0.750V. Connect the feedback resistor divider taps to these pins.", 12 SYNC (in) "To synchronize the part to an external frequency, drive the SYNC pin with a logic-level signal with positive and negative pulse widths of at least 100ns. If the SYNC function is not used, connect the SYNC pin to ground. If (See Datasheet)", 13 RT "The RT pin is used to set the internal oscillator frequency. Tie a resistor from RT to GND for the desired switching frequency.", 14 FB1 (in) "The LT3988 regulates each feedback pin to 0.750V. Connect the feedback resistor divider taps to these pins.", 15 TRACK/SS1 (in) "The TRACK/SS pins are used to soft-start the two channels, to allow one channel to track the other output, or to allow both channels to track another output. For tracking, tie a resistor divider to this pin from the tracked (See Datasheet)", 16 VIN1 (power) "The VIN1 pin supplies current to the LT3988 internal circuitry and to the internal power switch connected to SW1 and must be locally bypassed. VIN1 must be greater than 3.9V (typ) for channel 1 or channel 2 to operate.", 17 EP (power) "The exposed pad metal of the package provides both electrical contact to ground and good thermal contact to the printed circuit board. The exposed pad must be soldered to the circuit board for proper operation."

## LT3988HMSE#TRPBF
designator U?
Dual 60 V Monolithic 1 A Step-Down Switching Regulator, 16-pin SOP (MSE-16-EDP), -40 to 150 degC, Pb-Free, Tape and Reel; Manufacturer: Linear Technology; PartNumber: LT3988HMSE#TRPBF; Number of Outputs: 2; PackageReference: MSE-16; PackageDescription: 16-Pin Plastic MSOP, Exposed Die Pad, Body 4.039 x 3 mm, Pitch 0.5 mm; Supplier 1: Digi-Key; Supplier Part Number 1: LT3988HMSE#TRPBF-ND; RoHS: TRUE
footprint LT-MSE-16-EDP_N (SOP, 16-Leads, Body 4.1x3.1mm, Pitch 0.5mm, Thermal Pad 2.95x1.76mm, IPC Medium Density)
footprint LT-MSE-16-EDP_L (SOP, 16-Leads, Body 4.1x3.1mm, Pitch 0.5mm, Thermal Pad 2.95x1.76mm, IPC High Density)
footprint LT-MSE-16-EDP_M (SOP, 16-Leads, Body 4.1x3.1mm, Pitch 0.5mm, Thermal Pad 2.95x1.76mm, IPC Low Density)
pins: 1 DA1 "Tie the DA pin to the anode of the external Schottky catch diode. If the DA pin current exceeds 1.32A, which could occur in an overload or short-circuit condition, switching is disabled until the DA pin current falls below 1.(See Datasheet)", 2 SW1 (power) "The SW pins are the outputs of the internal power switches. Connect these pins to the inductors, catch diodes and boost capacitors.", 3 BOOST1 "The BOOST pins are used to provide drive voltages, higher than the input voltage, to the internal NPN power switches.", 4 BD (power) "Internal boost diodes are connected between the BD pin and the BOOST pins. Connect BD to a 3V or higher supply, such as VOUT.", 5 EN/UVLO (in) "This pin is used to shut down the LT3988. It can be driven from a logic level, tied directly to the input, or used as an undervoltage lockout by connecting a resistor divider from VIN1.", 6 BOOST2 "The BOOST pins are used to provide drive voltages, higher than the input voltage, to the internal NPN power switches.", 7 SW2 (power) "The SW pins are the outputs of the internal power switches. Connect these pins to the inductors, catch diodes and boost capacitors.", 8 DA2 "Tie the DA pin to the anode of the external Schottky catch diode. If the DA pin current exceeds 1.32A, which could occur in an overload or short-circuit condition, switching is disabled until the DA pin current falls below 1.(See Datasheet)", 9 VIN2 (power) "The VIN2 pin supplies current to the internal power switch connected to SW2 and must be locally bypassed. Connect this pin directly to VIN1 unless power for channel 2 is coming from a different source. VIN2 must be greater (See Datasheet)", 10 TRACK/SS2 (in) "The TRACK/SS pins are used to soft-start the two channels, to allow one channel to track the other output, or to allow both channels to track another output. For tracking, tie a resistor divider to this pin from the tracked (See Datasheet)", 11 FB2 (in) "The LT3988 regulates each feedback pin to 0.750V. Connect the feedback resistor divider taps to these pins.", 12 SYNC (in) "To synchronize the part to an external frequency, drive the SYNC pin with a logic-level signal with positive and negative pulse widths of at least 100ns. If the SYNC function is not used, connect the SYNC pin to ground. If (See Datasheet)", 13 RT "The RT pin is used to set the internal oscillator frequency. Tie a resistor from RT to GND for the desired switching frequency.", 14 FB1 (in) "The LT3988 regulates each feedback pin to 0.750V. Connect the feedback resistor divider taps to these pins.", 15 TRACK/SS1 (in) "The TRACK/SS pins are used to soft-start the two channels, to allow one channel to track the other output, or to allow both channels to track another output. For tracking, tie a resistor divider to this pin from the tracked (See Datasheet)", 16 VIN1 (power) "The VIN1 pin supplies current to the LT3988 internal circuitry and to the internal power switch connected to SW1 and must be locally bypassed. VIN1 must be greater than 3.9V (typ) for channel 1 or channel 2 to operate.", 17 EP (power) "The exposed pad metal of the package provides both electrical contact to ground and good thermal contact to the printed circuit board. The exposed pad must be soldered to the circuit board for proper operation."

## LT3988IMSE#PBF
designator U?
Dual 60 V Monolithic 1 A Step-Down Switching Regulator, 16-pin SOP (MSE-16-EDP), -40 to 125 degC, Pb-Free; Manufacturer: Linear Technology; PartNumber: LT3988IMSE#PBF; Number of Outputs: 2; PackageReference: MSE-16; PackageDescription: 16-Pin Plastic MSOP, Exposed Die Pad, Body 4.039 x 3 mm, Pitch 0.5 mm; Supplier 1: Digi-Key; Supplier Part Number 1: LT3988IMSE#PBF-ND; RoHS: TRUE
footprint LT-MSE-16-EDP_N (SOP, 16-Leads, Body 4.1x3.1mm, Pitch 0.5mm, Thermal Pad 2.95x1.76mm, IPC Medium Density)
footprint LT-MSE-16-EDP_L (SOP, 16-Leads, Body 4.1x3.1mm, Pitch 0.5mm, Thermal Pad 2.95x1.76mm, IPC High Density)
footprint LT-MSE-16-EDP_M (SOP, 16-Leads, Body 4.1x3.1mm, Pitch 0.5mm, Thermal Pad 2.95x1.76mm, IPC Low Density)
pins: 1 DA1 "Tie the DA pin to the anode of the external Schottky catch diode. If the DA pin current exceeds 1.32A, which could occur in an overload or short-circuit condition, switching is disabled until the DA pin current falls below 1.(See Datasheet)", 2 SW1 (power) "The SW pins are the outputs of the internal power switches. Connect these pins to the inductors, catch diodes and boost capacitors.", 3 BOOST1 "The BOOST pins are used to provide drive voltages, higher than the input voltage, to the internal NPN power switches.", 4 BD (power) "Internal boost diodes are connected between the BD pin and the BOOST pins. Connect BD to a 3V or higher supply, such as VOUT.", 5 EN/UVLO (in) "This pin is used to shut down the LT3988. It can be driven from a logic level, tied directly to the input, or used as an undervoltage lockout by connecting a resistor divider from VIN1.", 6 BOOST2 "The BOOST pins are used to provide drive voltages, higher than the input voltage, to the internal NPN power switches.", 7 SW2 (power) "The SW pins are the outputs of the internal power switches. Connect these pins to the inductors, catch diodes and boost capacitors.", 8 DA2 "Tie the DA pin to the anode of the external Schottky catch diode. If the DA pin current exceeds 1.32A, which could occur in an overload or short-circuit condition, switching is disabled until the DA pin current falls below 1.(See Datasheet)", 9 VIN2 (power) "The VIN2 pin supplies current to the internal power switch connected to SW2 and must be locally bypassed. Connect this pin directly to VIN1 unless power for channel 2 is coming from a different source. VIN2 must be greater (See Datasheet)", 10 TRACK/SS2 (in) "The TRACK/SS pins are used to soft-start the two channels, to allow one channel to track the other output, or to allow both channels to track another output. For tracking, tie a resistor divider to this pin from the tracked (See Datasheet)", 11 FB2 (in) "The LT3988 regulates each feedback pin to 0.750V. Connect the feedback resistor divider taps to these pins.", 12 SYNC (in) "To synchronize the part to an external frequency, drive the SYNC pin with a logic-level signal with positive and negative pulse widths of at least 100ns. If the SYNC function is not used, connect the SYNC pin to ground. If (See Datasheet)", 13 RT "The RT pin is used to set the internal oscillator frequency. Tie a resistor from RT to GND for the desired switching frequency.", 14 FB1 (in) "The LT3988 regulates each feedback pin to 0.750V. Connect the feedback resistor divider taps to these pins.", 15 TRACK/SS1 (in) "The TRACK/SS pins are used to soft-start the two channels, to allow one channel to track the other output, or to allow both channels to track another output. For tracking, tie a resistor divider to this pin from the tracked (See Datasheet)", 16 VIN1 (power) "The VIN1 pin supplies current to the LT3988 internal circuitry and to the internal power switch connected to SW1 and must be locally bypassed. VIN1 must be greater than 3.9V (typ) for channel 1 or channel 2 to operate.", 17 EP (power) "The exposed pad metal of the package provides both electrical contact to ground and good thermal contact to the printed circuit board. The exposed pad must be soldered to the circuit board for proper operation."